# EAGLE library part 34-PIN-CONNECTOR (library sensor-breakout-boards)
34-Pin, 17x2, 0.1" Connector Sullins Connector Solutions Part Number: SFH11-PBPC-D17-ST-BK Digi-key Part Number: S9199-ND
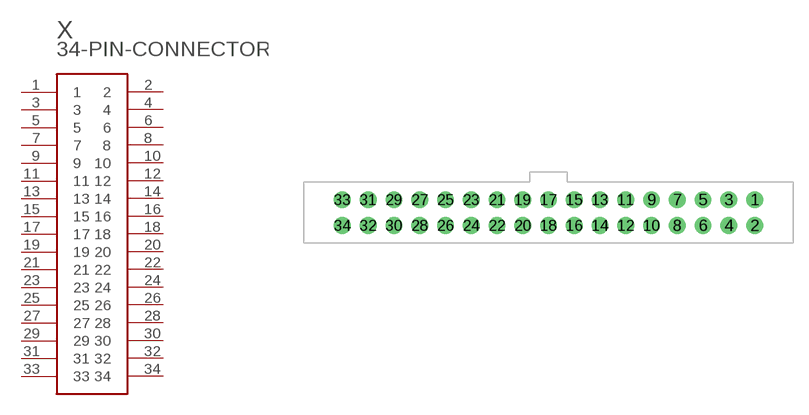
[diagram p1: symbol with the pads of SULLINS_SFH11-PBPC-D17-ST-BK; footprint SULLINS_SFH11-PBPC-D17-ST-BK]

Designator prefix X

## 34-PIN-CONNECTOR  [SULLINS_SFH11-PBPC-D17-ST-BK]
1  1
2  2
3  3
4  4
5  5
6  6
7  7
8  8
9  9
10  10
11  11
12  12
13  13
14  14
15  15
16  16
17  17
18  18
19  19
20  20
21  21
22  22
23  23
24  24
25  25
26  26
27  27
28  28
29  29
30  30
31  31
32  32
33  33
34  34

## Footprint SULLINS_SFH11-PBPC-D17-ST-BK (pad centres in mm)
drill 1.1: 1 20.32,1.27; 2 20.32,-1.27; 3 17.78,1.27; 4 17.78,-1.27; 5 15.24,1.27; 6 15.24,-1.27; 7 12.7,1.27; 8 12.7,-1.27; 9 10.16,1.27; 10 10.16,-1.27; 11 7.62,1.27; 12 7.62,-1.27; 13 5.08,1.27; 14 5.08,-1.27; 15 2.54,1.27; 16 2.54,-1.27; 17 0,1.27; 18 0,-1.27; 19 -2.54,1.27; 20 -2.54,-1.27; 21 -5.08,1.27; 22 -5.08,-1.27; 23 -7.62,1.27; 24 -7.62,-1.27; 25 -10.16,1.27; 26 -10.16,-1.27; 27 -12.7,1.27; 28 -12.7,-1.27; 29 -15.24,1.27; 30 -15.24,-1.27; 31 -17.78,1.27; 32 -17.78,-1.27; 33 -20.32,1.27; 34 -20.32,-1.27